# Altium schematic symbol library spacemonochrome-WR_TBL.SchLib: 1696 symbols (part 18 of 28)
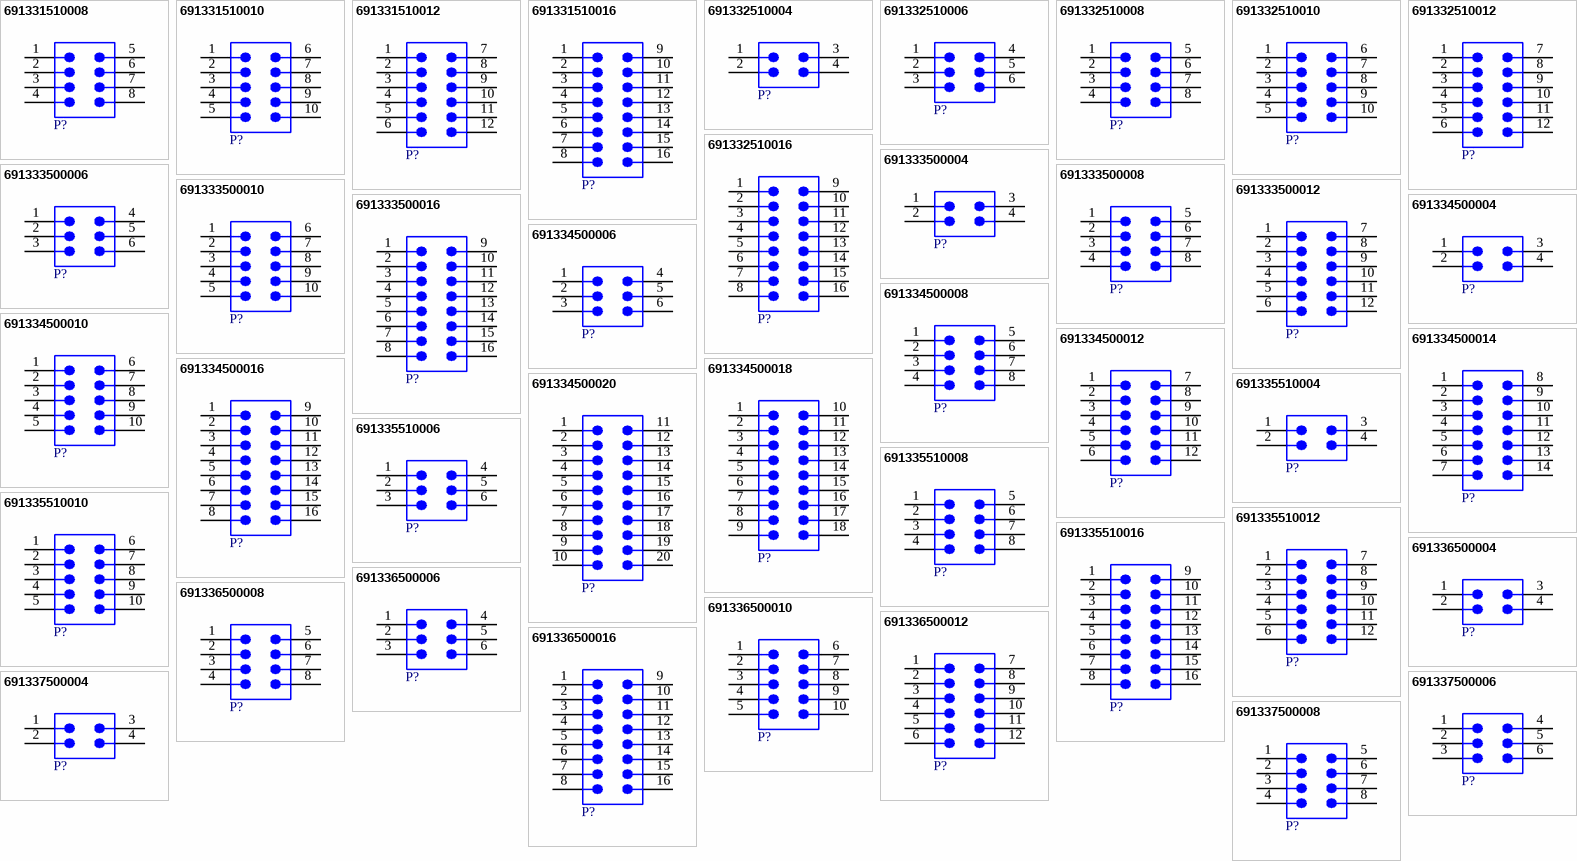
[diagram p59: symbols 691331510008 to 691337500008]

## 691334500004
designator P?  (value not drawn)
WR-TBL Series 3345 Double Level Vertical PCB Header with Flanges & Nut Type, THT, pitch 5.08mm, 4p; Manufacturer: Wurth Elektronik; Modularity: No; Rated Current: 20A; Working Voltage: 300V; ComponentLink1Description: Website Link; ComponentLink1URL: https://www.we-online.com/redexpert/article/691334500004?ad; ComponentLink2Description: Datasheet Link; ComponentLink2URL: https://www.we-online.com/redexpert/spec/691334500004?ad; Manufacturer Part Number: 691334500004; Category: Terminal Blocks; Match Code: WR-TBL; Mount: Through Hole; Operating Temperature Max: 105°C; Operating Temperature Min: -40°C; Packaging: Box; Application: Pluggable; Number of Pins: 4; Number of Rows: 2; Orientation: Double Level Vertical; Pitch: 5.08mm
footprint 691334500004
pins: 1, 2, 3, 4

## 691334500006
designator P?  (value not drawn)
WR-TBL Series 3345 Double Level Vertical PCB Header with Flanges & Nut Type, THT, pitch 5.08mm, 6p; Manufacturer: Wurth Elektronik; Modularity: No; Rated Current: 20A; Working Voltage: 300V; ComponentLink1Description: Website Link; ComponentLink1URL: https://www.we-online.com/redexpert/article/691334500006?ad; ComponentLink2Description: Datasheet Link; ComponentLink2URL: https://www.we-online.com/redexpert/spec/691334500006?ad; Manufacturer Part Number: 691334500006; Category: Terminal Blocks; Match Code: WR-TBL; Mount: Through Hole; Operating Temperature Max: 105°C; Operating Temperature Min: -40°C; Packaging: Box; Application: Pluggable; Number of Pins: 6; Number of Rows: 2; Orientation: Double Level Vertical; Pitch: 5.08mm
footprint 691334500006
pins: 1, 2, 3, 4, 5, 6

## 691334500008
designator P?  (value not drawn)
WR-TBL Series 3345 Double Level Vertical PCB Header with Flanges & Nut Type, THT, pitch 5.08mm, 8p; Manufacturer: Wurth Elektronik; Modularity: No; Rated Current: 20A; Working Voltage: 300V; ComponentLink1Description: Website Link; ComponentLink1URL: https://www.we-online.com/redexpert/article/691334500008?ad; ComponentLink2Description: Datasheet Link; ComponentLink2URL: https://www.we-online.com/redexpert/spec/691334500008?ad; Manufacturer Part Number: 691334500008; Category: Terminal Blocks; Match Code: WR-TBL; Mount: Through Hole; Operating Temperature Max: 105°C; Operating Temperature Min: -40°C; Packaging: Box; Application: Pluggable; Number of Pins: 8; Number of Rows: 2; Orientation: Double Level Vertical; Pitch: 5.08mm
footprint 691334500008
pins: 1, 2, 3, 4, 5, 6, 7, 8

## 691334500010
designator P?  (value not drawn)
WR-TBL Series 3345 Double Level Vertical PCB Header with Flanges & Nut Type, THT, pitch 5.08mm, 10p; Manufacturer: Wurth Elektronik; Modularity: No; Rated Current: 20A; Working Voltage: 300V; ComponentLink1Description: Website Link; ComponentLink1URL: https://www.we-online.com/redexpert/article/691334500010?ad; ComponentLink2Description: Datasheet Link; ComponentLink2URL: https://www.we-online.com/redexpert/spec/691334500010?ad; Manufacturer Part Number: 691334500010; Category: Terminal Blocks; Match Code: WR-TBL; Mount: Through Hole; Operating Temperature Max: 105°C; Operating Temperature Min: -40°C; Packaging: Box; Application: Pluggable; Number of Pins: 10; Number of Rows: 2; Orientation: Double Level Vertical; Pitch: 5.08mm
footprint 691334500010
pins: 1, 2, 3, 4, 5, 6, 7, 8, 9, 10

## 691334500012
designator P?  (value not drawn)
WR-TBL Series 3345 Double Level Vertical PCB Header with Flanges & Nut Type, THT, pitch 5.08mm, 12p; Manufacturer: Wurth Elektronik; Modularity: No; Rated Current: 20A; Working Voltage: 300V; ComponentLink1Description: Website Link; ComponentLink1URL: https://www.we-online.com/redexpert/article/691334500012?ad; ComponentLink2Description: Datasheet Link; ComponentLink2URL: https://www.we-online.com/redexpert/spec/691334500012?ad; Manufacturer Part Number: 691334500012; Category: Terminal Blocks; Match Code: WR-TBL; Mount: Through Hole; Operating Temperature Max: 105°C; Operating Temperature Min: -40°C; Packaging: Box; Application: Pluggable; Number of Pins: 12; Number of Rows: 2; Orientation: Double Level Vertical; Pitch: 5.08mm
footprint 691334500012
pins: 1, 2, 3, 4, 5, 6, 7, 8, 9, 10, 11, 12

## 691334500014
designator P?  (value not drawn)
WR-TBL Series 3345 Double Level Vertical PCB Header with Flanges & Nut Type, THT, pitch 5.08mm, 14p; Manufacturer: Wurth Elektronik; Modularity: No; Rated Current: 20A; Working Voltage: 300V; ComponentLink1Description: Website Link; ComponentLink1URL: https://www.we-online.com/redexpert/article/691334500014?ad; ComponentLink2Description: Datasheet Link; ComponentLink2URL: https://www.we-online.com/redexpert/spec/691334500014?ad; Manufacturer Part Number: 691334500014; Category: Terminal Blocks; Match Code: WR-TBL; Mount: Through Hole; Operating Temperature Max: 105°C; Operating Temperature Min: -40°C; Packaging: Box; Application: Pluggable; Number of Pins: 14; Number of Rows: 2; Orientation: Double Level Vertical; Pitch: 5.08mm
footprint 691334500014
pins: 1, 2, 3, 4, 5, 6, 7, 8, 9, 10, 11, 12, 13, 14

## 691334500016
designator P?  (value not drawn)
WR-TBL Series 3345 Double Level Vertical PCB Header with Flanges & Nut Type, THT, pitch 5.08mm, 16p; Manufacturer: Wurth Elektronik; Modularity: No; Rated Current: 20A; Working Voltage: 300V; ComponentLink1Description: Website Link; ComponentLink1URL: https://www.we-online.com/redexpert/article/691334500016?ad; ComponentLink2Description: Datasheet Link; ComponentLink2URL: https://www.we-online.com/redexpert/spec/691334500016?ad; Manufacturer Part Number: 691334500016; Category: Terminal Blocks; Match Code: WR-TBL; Mount: Through Hole; Operating Temperature Max: 105°C; Operating Temperature Min: -40°C; Packaging: Box; Application: Pluggable; Number of Pins: 16; Number of Rows: 2; Orientation: Double Level Vertical; Pitch: 5.08mm
footprint 691334500016
pins: 1, 2, 3, 4, 5, 6, 7, 8, 9, 10, 11, 12, 13, 14, 15, 16

## 691334500018
designator P?  (value not drawn)
WR-TBL Series 3345 Double Level Vertical PCB Header with Flanges & Nut Type, THT, pitch 5.08mm, 18p; Manufacturer: Wurth Elektronik; Modularity: No; Rated Current: 20A; Working Voltage: 300V; ComponentLink1Description: Website Link; ComponentLink1URL: https://www.we-online.com/redexpert/article/691334500018?ad; ComponentLink2Description: Datasheet Link; ComponentLink2URL: https://www.we-online.com/redexpert/spec/691334500018?ad; Manufacturer Part Number: 691334500018; Category: Terminal Blocks; Match Code: WR-TBL; Mount: Through Hole; Operating Temperature Max: 105°C; Operating Temperature Min: -40°C; Packaging: Box; Application: Pluggable; Number of Pins: 18; Number of Rows: 2; Orientation: Double Level Vertical; Pitch: 5.08mm
footprint 691334500018
pins: 1, 2, 3, 4, 5, 6, 7, 8, 9, 10, 11, 12, 13, 14, 15, 16, 17, 18

## 691334500020
designator P?  (value not drawn)
WR-TBL Series 3345 Double Level Vertical PCB Header with Flanges & Nut Type, THT, pitch 5.08mm, 20p; Manufacturer: Wurth Elektronik; Modularity: No; Rated Current: 20A; Working Voltage: 300V; ComponentLink1Description: Website Link; ComponentLink1URL: https://www.we-online.com/redexpert/article/691334500020?ad; ComponentLink2Description: Datasheet Link; ComponentLink2URL: https://www.we-online.com/redexpert/spec/691334500020?ad; Manufacturer Part Number: 691334500020; Category: Terminal Blocks; Match Code: WR-TBL; Mount: Through Hole; Operating Temperature Max: 105°C; Operating Temperature Min: -40°C; Packaging: Box; Application: Pluggable; Number of Pins: 20; Number of Rows: 2; Orientation: Double Level Vertical; Pitch: 5.08mm
footprint 691334500020
pins: 1, 2, 3, 4, 5, 6, 7, 8, 9, 10, 11, 12, 13, 14, 15, 16, 17, 18, 19, 20

## 691335510004
designator P?  (value not drawn)
WR-TBL Series 3355 Double Level Horizontal PCB Header Modular, THT, pitch 5.08mm, 4p; Manufacturer: Wurth Elektronik; Modularity: Yes; Rated Current: 10A; Working Voltage: 300V; ComponentLink1Description: Website Link; ComponentLink1URL: https://www.we-online.com/redexpert/article/691335510004?ad; ComponentLink2Description: Datasheet Link; ComponentLink2URL: https://www.we-online.com/redexpert/spec/691335510004?ad; Manufacturer Part Number: 691335510004; Category: Terminal Blocks; Match Code: WR-TBL; Mount: Through Hole; Operating Temperature Max: 105°C; Operating Temperature Min: -40°C; Packaging: Box; Application: Pluggable; Number of Pins: 4; Number of Rows: 2; Orientation: Double Level Horizontal; Pitch: 5.08mm
footprint 691335510004
pins: 1, 2, 3, 4

## 691335510006
designator P?  (value not drawn)
WR-TBL Series 3355 Double Level Horizontal PCB Header Modular, THT, pitch 5.08mm, 6p; Manufacturer: Wurth Elektronik; Modularity: Yes; Rated Current: 10A; Working Voltage: 300V; ComponentLink1Description: Website Link; ComponentLink1URL: https://www.we-online.com/redexpert/article/691335510006?ad; ComponentLink2Description: Datasheet Link; ComponentLink2URL: https://www.we-online.com/redexpert/spec/691335510006?ad; Manufacturer Part Number: 691335510006; Category: Terminal Blocks; Match Code: WR-TBL; Mount: Through Hole; Operating Temperature Max: 105°C; Operating Temperature Min: -40°C; Packaging: Box; Application: Pluggable; Number of Pins: 6; Number of Rows: 2; Orientation: Double Level Horizontal; Pitch: 5.08mm
footprint 691335510006
pins: 1, 2, 3, 4, 5, 6

## 691335510008
designator P?  (value not drawn)
WR-TBL Series 3355 Double Level Horizontal PCB Header Modular, THT, pitch 5.08mm, 8p; Manufacturer: Wurth Elektronik; Modularity: Yes; Rated Current: 10A; Working Voltage: 300V; ComponentLink1Description: Website Link; ComponentLink1URL: https://www.we-online.com/redexpert/article/691335510008?ad; ComponentLink2Description: Datasheet Link; ComponentLink2URL: https://www.we-online.com/redexpert/spec/691335510008?ad; Manufacturer Part Number: 691335510008; Category: Terminal Blocks; Match Code: WR-TBL; Mount: Through Hole; Operating Temperature Max: 105°C; Operating Temperature Min: -40°C; Packaging: Box; Application: Pluggable; Number of Pins: 8; Number of Rows: 2; Orientation: Double Level Horizontal; Pitch: 5.08mm
footprint 691335510008
pins: 1, 2, 3, 4, 5, 6, 7, 8

## 691335510010
designator P?  (value not drawn)
WR-TBL Series 3355 Double Level Horizontal PCB Header Modular, THT, pitch 5.08mm, 10p; Manufacturer: Wurth Elektronik; Modularity: Yes; Rated Current: 10A; Working Voltage: 300V; ComponentLink1Description: Website Link; ComponentLink1URL: https://www.we-online.com/redexpert/article/691335510010?ad; ComponentLink2Description: Datasheet Link; ComponentLink2URL: https://www.we-online.com/redexpert/spec/691335510010?ad; Manufacturer Part Number: 691335510010; Category: Terminal Blocks; Match Code: WR-TBL; Mount: Through Hole; Operating Temperature Max: 105°C; Operating Temperature Min: -40°C; Packaging: Box; Application: Pluggable; Number of Pins: 10; Number of Rows: 2; Orientation: Double Level Horizontal; Pitch: 5.08mm
footprint 691335510010
pins: 1, 2, 3, 4, 5, 6, 7, 8, 9, 10

## 691335510012
designator P?  (value not drawn)
WR-TBL Series 3355 Double Level Horizontal PCB Header Modular, THT, pitch 5.08mm, 12p; Manufacturer: Wurth Elektronik; Modularity: Yes; Rated Current: 10A; Working Voltage: 300V; ComponentLink1Description: Website Link; ComponentLink1URL: https://www.we-online.com/redexpert/article/691335510012?ad; ComponentLink2Description: Datasheet Link; ComponentLink2URL: https://www.we-online.com/redexpert/spec/691335510012?ad; Manufacturer Part Number: 691335510012; Category: Terminal Blocks; Match Code: WR-TBL; Mount: Through Hole; Operating Temperature Max: 105°C; Operating Temperature Min: -40°C; Packaging: Box; Application: Pluggable; Number of Pins: 12; Number of Rows: 2; Orientation: Double Level Horizontal; Pitch: 5.08mm
footprint 691335510012
pins: 1, 2, 3, 4, 5, 6, 7, 8, 9, 10, 11, 12

## 691335510016
designator P?  (value not drawn)
WR-TBL Series 3355 Double Level Horizontal PCB Header Modular, THT, pitch 5.08mm, 16p; Manufacturer: Wurth Elektronik; Modularity: Yes; Rated Current: 10A; Working Voltage: 300V; ComponentLink1Description: Website Link; ComponentLink1URL: https://www.we-online.com/redexpert/article/691335510016?ad; ComponentLink2Description: Datasheet Link; ComponentLink2URL: https://www.we-online.com/redexpert/spec/691335510016?ad; Manufacturer Part Number: 691335510016; Category: Terminal Blocks; Match Code: WR-TBL; Mount: Through Hole; Operating Temperature Max: 105°C; Operating Temperature Min: -40°C; Packaging: Box; Application: Pluggable; Number of Pins: 16; Number of Rows: 2; Orientation: Double Level Horizontal; Pitch: 5.08mm
footprint 691335510016
pins: 1, 2, 3, 4, 5, 6, 7, 8, 9, 10, 11, 12, 13, 14, 15, 16

## 691336500004
designator P?  (value not drawn)
WR-TBL Series 3365 Double Level Vertical Header with Flanges, THT, pitch 5.08mm, 4p; Manufacturer: Wurth Elektronik; Modularity: No; Rated Current: 15A; Working Voltage: 300V; ComponentLink1Description: Website Link; ComponentLink1URL: https://www.we-online.com/redexpert/article/691336500004?ad; ComponentLink2Description: Datasheet Link; ComponentLink2URL: https://www.we-online.com/redexpert/spec/691336500004?ad; Manufacturer Part Number: 691336500004; Category: Terminal Blocks; Match Code: WR-TBL; Mount: Through Hole; Operating Temperature Max: 105°C; Operating Temperature Min: -40°C; Packaging: Box; Application: Pluggable; Number of Pins: 4; Number of Rows: 2; Orientation: Double Level Vertical; Pitch: 5.08mm
footprint 691336500004
pins: 1, 2, 3, 4

## 691336500006
designator P?  (value not drawn)
WR-TBL Series 3365 Double Level Vertical Header with Flanges, THT, pitch 5.08mm, 6p; Manufacturer: Wurth Elektronik; Modularity: No; Rated Current: 15A; Working Voltage: 300V; ComponentLink1Description: Website Link; ComponentLink1URL: https://www.we-online.com/redexpert/article/691336500006?ad; ComponentLink2Description: Datasheet Link; ComponentLink2URL: https://www.we-online.com/redexpert/spec/691336500006?ad; Manufacturer Part Number: 691336500006; Category: Terminal Blocks; Match Code: WR-TBL; Mount: Through Hole; Operating Temperature Max: 105°C; Operating Temperature Min: -40°C; Packaging: Box; Application: Pluggable; Number of Pins: 6; Number of Rows: 2; Orientation: Double Level Vertical; Pitch: 5.08mm
footprint 691336500006
pins: 1, 2, 3, 4, 5, 6

## 691336500008
designator P?  (value not drawn)
WR-TBL Series 3365 Double Level Vertical Header with Flanges, THT, pitch 5.08mm, 8p; Manufacturer: Wurth Elektronik; Modularity: No; Rated Current: 15A; Working Voltage: 300V; ComponentLink1Description: Website Link; ComponentLink1URL: https://www.we-online.com/redexpert/article/691336500008?ad; ComponentLink2Description: Datasheet Link; ComponentLink2URL: https://www.we-online.com/redexpert/spec/691336500008?ad; Manufacturer Part Number: 691336500008; Category: Terminal Blocks; Match Code: WR-TBL; Mount: Through Hole; Operating Temperature Max: 105°C; Operating Temperature Min: -40°C; Packaging: Box; Application: Pluggable; Number of Pins: 8; Number of Rows: 2; Orientation: Double Level Vertical; Pitch: 5.08mm
footprint 691336500008
pins: 1, 2, 3, 4, 5, 6, 7, 8

## 691336500010
designator P?  (value not drawn)
WR-TBL Series 3365 Double Level Vertical Header with Flanges, THT, pitch 5.08mm, 10p; Manufacturer: Wurth Elektronik; Modularity: No; Rated Current: 15A; Working Voltage: 300V; ComponentLink1Description: Website Link; ComponentLink1URL: https://www.we-online.com/redexpert/article/691336500010?ad; ComponentLink2Description: Datasheet Link; ComponentLink2URL: https://www.we-online.com/redexpert/spec/691336500010?ad; Manufacturer Part Number: 691336500010; Category: Terminal Blocks; Match Code: WR-TBL; Mount: Through Hole; Operating Temperature Max: 105°C; Operating Temperature Min: -40°C; Packaging: Box; Application: Pluggable; Number of Pins: 10; Number of Rows: 2; Orientation: Double Level Vertical; Pitch: 5.08mm
footprint 691336500010
pins: 1, 2, 3, 4, 5, 6, 7, 8, 9, 10

## 691336500012
designator P?  (value not drawn)
WR-TBL Series 3365 Double Level Vertical Header with Flanges, THT, pitch 5.08mm, 12p; Manufacturer: Wurth Elektronik; Modularity: No; Rated Current: 15A; Working Voltage: 300V; ComponentLink1Description: Website Link; ComponentLink1URL: https://www.we-online.com/redexpert/article/691336500012?ad; ComponentLink2Description: Datasheet Link; ComponentLink2URL: https://www.we-online.com/redexpert/spec/691336500012?ad; Manufacturer Part Number: 691336500012; Category: Terminal Blocks; Match Code: WR-TBL; Mount: Through Hole; Operating Temperature Max: 105°C; Operating Temperature Min: -40°C; Packaging: Box; Application: Pluggable; Number of Pins: 12; Number of Rows: 2; Orientation: Double Level Vertical; Pitch: 5.08mm
footprint 691336500012
pins: 1, 2, 3, 4, 5, 6, 7, 8, 9, 10, 11, 12

## 691336500016
designator P?  (value not drawn)
WR-TBL Series 3365 Double Level Vertical Header with Flanges, THT, pitch 5.08mm, 16p; Manufacturer: Wurth Elektronik; Modularity: No; Rated Current: 15A; Working Voltage: 300V; ComponentLink1Description: Website Link; ComponentLink1URL: https://www.we-online.com/redexpert/article/691336500016?ad; ComponentLink2Description: Datasheet Link; ComponentLink2URL: https://www.we-online.com/redexpert/spec/691336500016?ad; Manufacturer Part Number: 691336500016; Category: Terminal Blocks; Match Code: WR-TBL; Mount: Through Hole; Operating Temperature Max: 105°C; Operating Temperature Min: -40°C; Packaging: Box; Application: Pluggable; Number of Pins: 16; Number of Rows: 2; Orientation: Double Level Vertical; Pitch: 5.08mm
footprint 691336500016
pins: 1, 2, 3, 4, 5, 6, 7, 8, 9, 10, 11, 12, 13, 14, 15, 16

## 691337500004
designator P?  (value not drawn)
WR-TBL Series 3375 Double Level Vertical PCB Header with Flanges & Nut Type, THT, pitch 5.08mm, 4p; Manufacturer: Wurth Elektronik; Modularity: No; Rated Current: 10A; Working Voltage: 300V; ComponentLink1Description: Website Link; ComponentLink1URL: https://www.we-online.com/redexpert/article/691337500004?ad; ComponentLink2Description: Datasheet Link; ComponentLink2URL: https://www.we-online.com/redexpert/spec/691337500004?ad; Manufacturer Part Number: 691337500004; Category: Terminal Blocks; Match Code: WR-TBL; Mount: Through Hole; Operating Temperature Max: 105°C; Operating Temperature Min: -40°C; Packaging: Box; Application: Pluggable; Number of Pins: 4; Number of Rows: 2; Orientation: Double Level Vertical; Pitch: 5.08mm
footprint 691337500004
pins: 1, 2, 3, 4

## 691337500006
designator P?  (value not drawn)
WR-TBL Series 3375 Double Level Vertical PCB Header with Flanges & Nut Type, THT, pitch 5.08mm, 6p; Manufacturer: Wurth Elektronik; Modularity: No; Rated Current: 10A; Working Voltage: 300V; ComponentLink1Description: Website Link; ComponentLink1URL: https://www.we-online.com/redexpert/article/691337500006?ad; ComponentLink2Description: Datasheet Link; ComponentLink2URL: https://www.we-online.com/redexpert/spec/691337500006?ad; Manufacturer Part Number: 691337500006; Category: Terminal Blocks; Match Code: WR-TBL; Mount: Through Hole; Operating Temperature Max: 105°C; Operating Temperature Min: -40°C; Packaging: Box; Application: Pluggable; Number of Pins: 6; Number of Rows: 2; Orientation: Double Level Vertical; Pitch: 5.08mm
footprint 691337500006
pins: 1, 2, 3, 4, 5, 6

## 691337500008
designator P?  (value not drawn)
WR-TBL Series 3375 Double Level Vertical PCB Header with Flanges & Nut Type, THT, pitch 5.08mm, 8p; Manufacturer: Wurth Elektronik; Modularity: No; Rated Current: 10A; Working Voltage: 300V; ComponentLink1Description: Website Link; ComponentLink1URL: https://www.we-online.com/redexpert/article/691337500008?ad; ComponentLink2Description: Datasheet Link; ComponentLink2URL: https://www.we-online.com/redexpert/spec/691337500008?ad; Manufacturer Part Number: 691337500008; Category: Terminal Blocks; Match Code: WR-TBL; Mount: Through Hole; Operating Temperature Max: 105°C; Operating Temperature Min: -40°C; Packaging: Box; Application: Pluggable; Number of Pins: 8; Number of Rows: 2; Orientation: Double Level Vertical; Pitch: 5.08mm
footprint 691337500008
pins: 1, 2, 3, 4, 5, 6, 7, 8

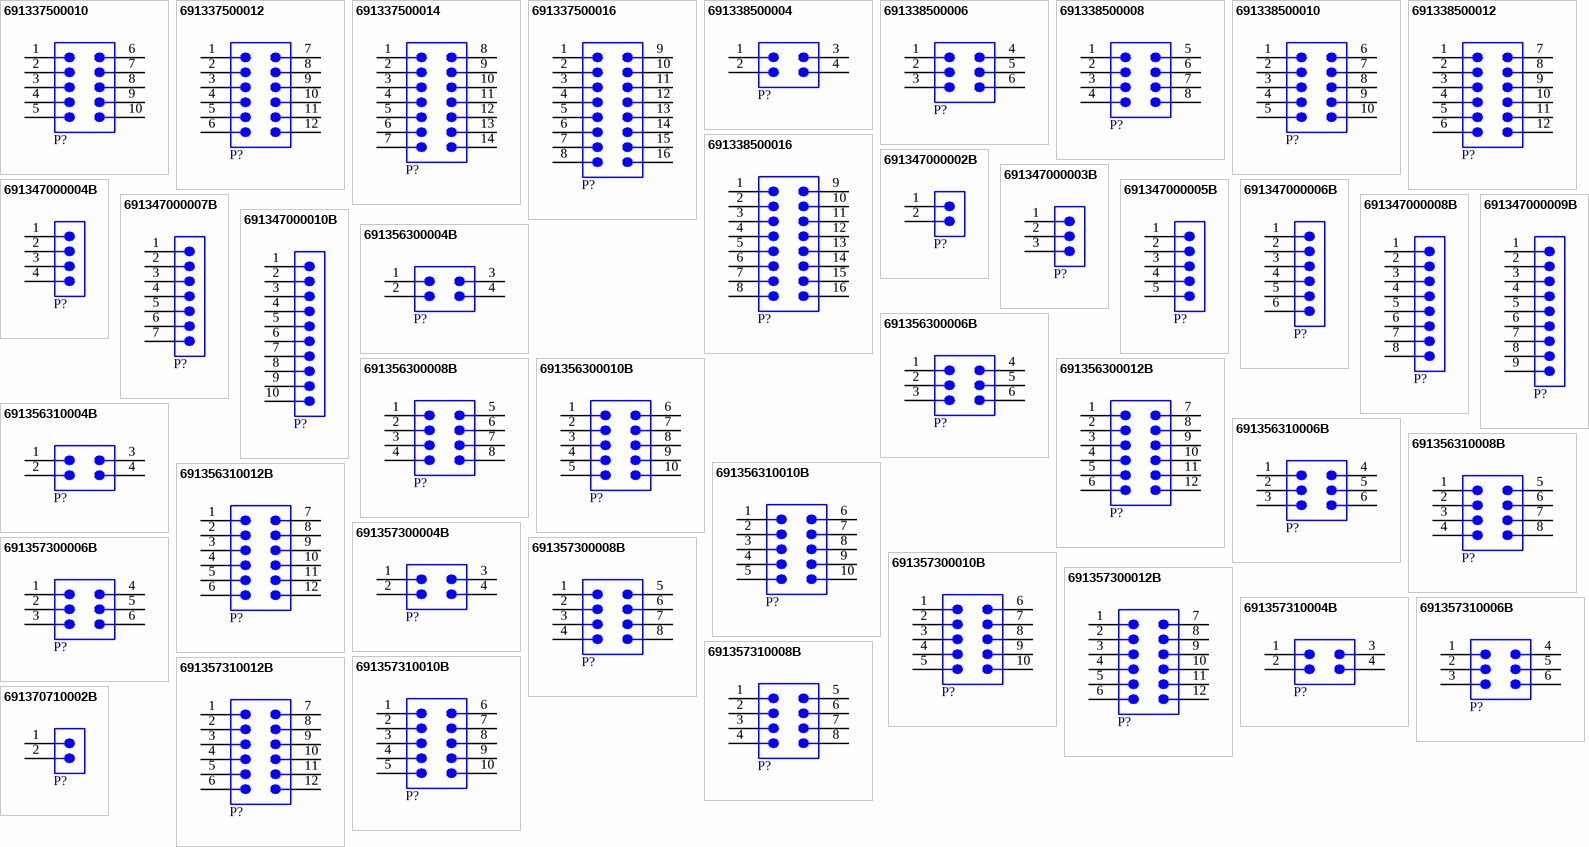
[diagram p27: symbols 691337500010 to 691370710002B]

## 691337500010
designator P?  (value not drawn)
WR-TBL Series 3375 Double Level Vertical PCB Header with Flanges & Nut Type, THT, pitch 5.08mm, 10p; Manufacturer: Wurth Elektronik; Modularity: No; Rated Current: 10A; Working Voltage: 300V; ComponentLink1Description: Website Link; ComponentLink1URL: https://www.we-online.com/redexpert/article/691337500010?ad; ComponentLink2Description: Datasheet Link; ComponentLink2URL: https://www.we-online.com/redexpert/spec/691337500010?ad; Manufacturer Part Number: 691337500010; Category: Terminal Blocks; Match Code: WR-TBL; Mount: Through Hole; Operating Temperature Max: 105°C; Operating Temperature Min: -40°C; Packaging: Box; Application: Pluggable; Number of Pins: 10; Number of Rows: 2; Orientation: Double Level Vertical; Pitch: 5.08mm
footprint 691337500010
pins: 1, 2, 3, 4, 5, 6, 7, 8, 9, 10

## 691337500012
designator P?  (value not drawn)
WR-TBL Series 3375 Double Level Vertical PCB Header with Flanges & Nut Type, THT, pitch 5.08mm, 12p; Manufacturer: Wurth Elektronik; Modularity: No; Rated Current: 10A; Working Voltage: 300V; ComponentLink1Description: Website Link; ComponentLink1URL: https://www.we-online.com/redexpert/article/691337500012?ad; ComponentLink2Description: Datasheet Link; ComponentLink2URL: https://www.we-online.com/redexpert/spec/691337500012?ad; Manufacturer Part Number: 691337500012; Category: Terminal Blocks; Match Code: WR-TBL; Mount: Through Hole; Operating Temperature Max: 105°C; Operating Temperature Min: -40°C; Packaging: Box; Application: Pluggable; Number of Pins: 12; Number of Rows: 2; Orientation: Double Level Vertical; Pitch: 5.08mm
footprint 691337500012
pins: 1, 2, 3, 4, 5, 6, 7, 8, 9, 10, 11, 12

## 691337500014
designator P?  (value not drawn)
WR-TBL Series 3375 Double Level Vertical PCB Header with Flanges & Nut Type, THT, pitch 5.08mm, 14p; Manufacturer: Wurth Elektronik; Modularity: No; Rated Current: 10A; Working Voltage: 300V; ComponentLink1Description: Website Link; ComponentLink1URL: https://www.we-online.com/redexpert/article/691337500014?ad; ComponentLink2Description: Datasheet Link; ComponentLink2URL: https://www.we-online.com/redexpert/spec/691337500014?ad; Manufacturer Part Number: 691337500014; Category: Terminal Blocks; Match Code: WR-TBL; Mount: Through Hole; Operating Temperature Max: 105°C; Operating Temperature Min: -40°C; Packaging: Box; Application: Pluggable; Number of Pins: 14; Number of Rows: 2; Orientation: Double Level Vertical; Pitch: 5.08mm
footprint 691337500014
pins: 1, 2, 3, 4, 5, 6, 7, 8, 9, 10, 11, 12, 13, 14

## 691337500016
designator P?  (value not drawn)
WR-TBL Series 3375 Double Level Vertical PCB Header with Flanges & Nut Type, THT, pitch 5.08mm, 16p; Manufacturer: Wurth Elektronik; Modularity: No; Rated Current: 10A; Working Voltage: 300V; ComponentLink1Description: Website Link; ComponentLink1URL: https://www.we-online.com/redexpert/article/691337500016?ad; ComponentLink2Description: Datasheet Link; ComponentLink2URL: https://www.we-online.com/redexpert/spec/691337500016?ad; Manufacturer Part Number: 691337500016; Category: Terminal Blocks; Match Code: WR-TBL; Mount: Through Hole; Operating Temperature Max: 105°C; Operating Temperature Min: -40°C; Packaging: Box; Application: Pluggable; Number of Pins: 16; Number of Rows: 2; Orientation: Double Level Vertical; Pitch: 5.08mm
footprint 691337500016
pins: 1, 2, 3, 4, 5, 6, 7, 8, 9, 10, 11, 12, 13, 14, 15, 16

## 691338500004
designator P?  (value not drawn)
WR-TBL Series 3385 Double Level Vertical PCB Header, THT, pitch 5.08mm, 4p; Manufacturer: Wurth Elektronik; Modularity: No; Rated Current: 15A; Working Voltage: 300V; ComponentLink1Description: Website Link; ComponentLink1URL: https://www.we-online.com/redexpert/article/691338500004?ad; ComponentLink2Description: Datasheet Link; ComponentLink2URL: https://www.we-online.com/redexpert/spec/691338500004?ad; Manufacturer Part Number: 691338500004; Category: Terminal Blocks; Match Code: WR-TBL; Mount: Through Hole; Operating Temperature Max: 105°C; Operating Temperature Min: -40°C; Packaging: Box; Application: Pluggable; Number of Pins: 4; Number of Rows: 2; Orientation: Double Level Vertical; Pitch: 5.08mm
footprint 691338500004
pins: 1, 2, 3, 4

## 691338500006
designator P?  (value not drawn)
WR-TBL Series 3385 Double Level Vertical PCB Header, THT, pitch 5.08mm, 6p; Manufacturer: Wurth Elektronik; Modularity: No; Rated Current: 15A; Working Voltage: 300V; ComponentLink1Description: Website Link; ComponentLink1URL: https://www.we-online.com/redexpert/article/691338500006?ad; ComponentLink2Description: Datasheet Link; ComponentLink2URL: https://www.we-online.com/redexpert/spec/691338500006?ad; Manufacturer Part Number: 691338500006; Category: Terminal Blocks; Match Code: WR-TBL; Mount: Through Hole; Operating Temperature Max: 105°C; Operating Temperature Min: -40°C; Packaging: Box; Application: Pluggable; Number of Pins: 6; Number of Rows: 2; Orientation: Double Level Vertical; Pitch: 5.08mm
footprint 691338500006
pins: 1, 2, 3, 4, 5, 6

## 691338500008
designator P?  (value not drawn)
WR-TBL Series 3385 Double Level Vertical PCB Header, THT, pitch 5.08mm, 8p; Manufacturer: Wurth Elektronik; Modularity: No; Rated Current: 15A; Working Voltage: 300V; ComponentLink1Description: Website Link; ComponentLink1URL: https://www.we-online.com/redexpert/article/691338500008?ad; ComponentLink2Description: Datasheet Link; ComponentLink2URL: https://www.we-online.com/redexpert/spec/691338500008?ad; Manufacturer Part Number: 691338500008; Category: Terminal Blocks; Match Code: WR-TBL; Mount: Through Hole; Operating Temperature Max: 105°C; Operating Temperature Min: -40°C; Packaging: Box; Application: Pluggable; Number of Pins: 8; Number of Rows: 2; Orientation: Double Level Vertical; Pitch: 5.08mm
footprint 691338500008
pins: 1, 2, 3, 4, 5, 6, 7, 8

## 691338500010
designator P?  (value not drawn)
WR-TBL Series 3385 Double Level Vertical PCB Header, THT, pitch 5.08mm, 10p; Manufacturer: Wurth Elektronik; Modularity: No; Rated Current: 15A; Working Voltage: 300V; ComponentLink1Description: Website Link; ComponentLink1URL: https://www.we-online.com/redexpert/article/691338500010?ad; ComponentLink2Description: Datasheet Link; ComponentLink2URL: https://www.we-online.com/redexpert/spec/691338500010?ad; Manufacturer Part Number: 691338500010; Category: Terminal Blocks; Match Code: WR-TBL; Mount: Through Hole; Operating Temperature Max: 105°C; Operating Temperature Min: -40°C; Packaging: Box; Application: Pluggable; Number of Pins: 10; Number of Rows: 2; Orientation: Double Level Vertical; Pitch: 5.08mm
footprint 691338500010
pins: 1, 2, 3, 4, 5, 6, 7, 8, 9, 10

## 691338500012
designator P?  (value not drawn)
WR-TBL Series 3385 Double Level Vertical PCB Header, THT, pitch 5.08mm, 12p; Manufacturer: Wurth Elektronik; Modularity: No; Rated Current: 15A; Working Voltage: 300V; ComponentLink1Description: Website Link; ComponentLink1URL: https://www.we-online.com/redexpert/article/691338500012?ad; ComponentLink2Description: Datasheet Link; ComponentLink2URL: https://www.we-online.com/redexpert/spec/691338500012?ad; Manufacturer Part Number: 691338500012; Category: Terminal Blocks; Match Code: WR-TBL; Mount: Through Hole; Operating Temperature Max: 105°C; Operating Temperature Min: -40°C; Packaging: Box; Application: Pluggable; Number of Pins: 12; Number of Rows: 2; Orientation: Double Level Vertical; Pitch: 5.08mm
footprint 691338500012
pins: 1, 2, 3, 4, 5, 6, 7, 8, 9, 10, 11, 12

## 691338500016
designator P?  (value not drawn)
WR-TBL Series 3385 Double Level Vertical PCB Header, THT, pitch 5.08mm, 16p; Manufacturer: Wurth Elektronik; Modularity: No; Rated Current: 15A; Working Voltage: 300V; ComponentLink1Description: Website Link; ComponentLink1URL: https://www.we-online.com/redexpert/article/691338500016?ad; ComponentLink2Description: Datasheet Link; ComponentLink2URL: https://www.we-online.com/redexpert/spec/691338500016?ad; Manufacturer Part Number: 691338500016; Category: Terminal Blocks; Match Code: WR-TBL; Mount: Through Hole; Operating Temperature Max: 105°C; Operating Temperature Min: -40°C; Packaging: Box; Application: Pluggable; Number of Pins: 16; Number of Rows: 2; Orientation: Double Level Vertical; Pitch: 5.08mm
footprint 691338500016
pins: 1, 2, 3, 4, 5, 6, 7, 8, 9, 10, 11, 12, 13, 14, 15, 16

## 691347000002B
designator P?  (value not drawn)
WR-TBL Series 3470B PCB Header Vertical cable entry, THT, pitch 2.5mm, 2p; Manufacturer: Wurth Elektronik; Modularity: No; Rated Current: 6A; Working Voltage: 150V; ComponentLink1Description: Website Link; ComponentLink1URL: https://www.we-online.com/redexpert/article/691347000002B?ad; ComponentLink2Description: Datasheet Link; ComponentLink2URL: https://www.we-online.com/redexpert/spec/691347000002B?ad; Manufacturer Part Number: 691347000002B; Category: Terminal Blocks; Match Code: WR-TBL; Mount: Through Hole; Operating Temperature Max: 105°C; Operating Temperature Min: -40°C; Packaging: Carton; Application: Plug Screwless Push In; Number of Pins: 2; Number of Rows: 1; Orientation: Vertical Cable Entry; Pitch: 2.5mm
footprint 691347000002B
pins: 1, 2

## 691347000003B
designator P?  (value not drawn)
WR-TBL Series 3470B PCB Header Vertical cable entry, THT, pitch 2.5mm, 3p; Manufacturer: Wurth Elektronik; Modularity: No; Rated Current: 6A; Working Voltage: 150V; ComponentLink1Description: Website Link; ComponentLink1URL: https://www.we-online.com/redexpert/article/691347000003B?ad; ComponentLink2Description: Datasheet Link; ComponentLink2URL: https://www.we-online.com/redexpert/spec/691347000003B?ad; Manufacturer Part Number: 691347000003B; Category: Terminal Blocks; Match Code: WR-TBL; Mount: Through Hole; Operating Temperature Max: 105°C; Operating Temperature Min: -40°C; Packaging: Carton; Application: Plug Screwless Push In; Number of Pins: 3; Number of Rows: 1; Orientation: Vertical Cable Entry; Pitch: 2.5mm
footprint 691347000003B
pins: 1, 2, 3

## 691347000004B
designator P?  (value not drawn)
WR-TBL Series 3470B PCB Header Vertical cable entry, THT, pitch 2.5mm, 4p; Manufacturer: Wurth Elektronik; Modularity: No; Rated Current: 6A; Working Voltage: 150V; ComponentLink1Description: Website Link; ComponentLink1URL: https://www.we-online.com/redexpert/article/691347000004B?ad; ComponentLink2Description: Datasheet Link; ComponentLink2URL: https://www.we-online.com/redexpert/spec/691347000004B?ad; Manufacturer Part Number: 691347000004B; Category: Terminal Blocks; Match Code: WR-TBL; Mount: Through Hole; Operating Temperature Max: 105°C; Operating Temperature Min: -40°C; Packaging: Carton; Application: Plug Screwless Push In; Number of Pins: 4; Number of Rows: 1; Orientation: Vertical Cable Entry; Pitch: 2.5mm
footprint 691347000004B
pins: 1, 2, 3, 4

## 691347000005B
designator P?  (value not drawn)
WR-TBL Series 3470B PCB Header Vertical cable entry, THT, pitch 2.5mm, 5p; Manufacturer: Wurth Elektronik; Modularity: No; Rated Current: 6A; Working Voltage: 150V; ComponentLink1Description: Website Link; ComponentLink1URL: https://www.we-online.com/redexpert/article/691347000005B?ad; ComponentLink2Description: Datasheet Link; ComponentLink2URL: https://www.we-online.com/redexpert/spec/691347000005B?ad; Manufacturer Part Number: 691347000005B; Category: Terminal Blocks; Match Code: WR-TBL; Mount: Through Hole; Operating Temperature Max: 105°C; Operating Temperature Min: -40°C; Packaging: Carton; Application: Plug Screwless Push In; Number of Pins: 5; Number of Rows: 1; Orientation: Vertical Cable Entry; Pitch: 2.5mm
footprint 691347000005B
pins: 1, 2, 3, 4, 5

## 691347000006B
designator P?  (value not drawn)
WR-TBL Series 3470B PCB Header Vertical cable entry, THT, pitch 2.5mm, 6p; Manufacturer: Wurth Elektronik; Modularity: No; Rated Current: 6A; Working Voltage: 150V; ComponentLink1Description: Website Link; ComponentLink1URL: https://www.we-online.com/redexpert/article/691347000006B?ad; ComponentLink2Description: Datasheet Link; ComponentLink2URL: https://www.we-online.com/redexpert/spec/691347000006B?ad; Manufacturer Part Number: 691347000006B; Category: Terminal Blocks; Match Code: WR-TBL; Mount: Through Hole; Operating Temperature Max: 105°C; Operating Temperature Min: -40°C; Packaging: Carton; Application: Plug Screwless Push In; Number of Pins: 6; Number of Rows: 1; Orientation: Vertical Cable Entry; Pitch: 2.5mm
footprint 691347000006B
pins: 1, 2, 3, 4, 5, 6

## 691347000007B
designator P?  (value not drawn)
WR-TBL Series 3470B PCB Header Vertical cable entry, THT, pitch 2.5mm, 7p; Manufacturer: Wurth Elektronik; Modularity: No; Rated Current: 6A; Working Voltage: 150V; ComponentLink1Description: Website Link; ComponentLink1URL: https://www.we-online.com/redexpert/article/691347000007B?ad; ComponentLink2Description: Datasheet Link; ComponentLink2URL: https://www.we-online.com/redexpert/spec/691347000007B?ad; Manufacturer Part Number: 691347000007B; Category: Terminal Blocks; Match Code: WR-TBL; Mount: Through Hole; Operating Temperature Max: 105°C; Operating Temperature Min: -40°C; Packaging: Carton; Application: Plug Screwless Push In; Number of Pins: 7; Number of Rows: 1; Orientation: Vertical Cable Entry; Pitch: 2.5mm
footprint 691347000007B
pins: 1, 2, 3, 4, 5, 6, 7

## 691347000008B
designator P?  (value not drawn)
WR-TBL Series 3470B PCB Header Vertical cable entry, THT, pitch 2.5mm, 8p; Manufacturer: Wurth Elektronik; Modularity: No; Rated Current: 6A; Working Voltage: 150V; ComponentLink1Description: Website Link; ComponentLink1URL: https://www.we-online.com/redexpert/article/691347000008B?ad; ComponentLink2Description: Datasheet Link; ComponentLink2URL: https://www.we-online.com/redexpert/spec/691347000008B?ad; Manufacturer Part Number: 691347000008B; Category: Terminal Blocks; Match Code: WR-TBL; Mount: Through Hole; Operating Temperature Max: 105°C; Operating Temperature Min: -40°C; Packaging: Carton; Application: Plug Screwless Push In; Number of Pins: 8; Number of Rows: 1; Orientation: Vertical Cable Entry; Pitch: 2.5mm
footprint 691347000008B
pins: 1, 2, 3, 4, 5, 6, 7, 8

## 691347000009B
designator P?  (value not drawn)
WR-TBL Series 3470B PCB Header Vertical cable entry, THT, pitch 2.5mm, 9p; Manufacturer: Wurth Elektronik; Modularity: No; Rated Current: 6A; Working Voltage: 150V; ComponentLink1Description: Website Link; ComponentLink1URL: https://www.we-online.com/redexpert/article/691347000009B?ad; ComponentLink2Description: Datasheet Link; ComponentLink2URL: https://www.we-online.com/redexpert/spec/691347000009B?ad; Manufacturer Part Number: 691347000009B; Category: Terminal Blocks; Match Code: WR-TBL; Mount: Through Hole; Operating Temperature Max: 105°C; Operating Temperature Min: -40°C; Packaging: Carton; Application: Plug Screwless Push In; Number of Pins: 9; Number of Rows: 1; Orientation: Vertical Cable Entry; Pitch: 2.5mm
footprint 691347000009B
pins: 1, 2, 3, 4, 5, 6, 7, 8, 9

## 691347000010B
designator P?  (value not drawn)
WR-TBL Series 3470B PCB Header Vertical cable entry, THT, pitch 2.5mm, 10p; Manufacturer: Wurth Elektronik; Modularity: No; Rated Current: 6A; Working Voltage: 150V; ComponentLink1Description: Website Link; ComponentLink1URL: https://www.we-online.com/redexpert/article/691347000010B?ad; ComponentLink2Description: Datasheet Link; ComponentLink2URL: https://www.we-online.com/redexpert/spec/691347000010B?ad; Manufacturer Part Number: 691347000010B; Category: Terminal Blocks; Match Code: WR-TBL; Mount: Through Hole; Operating Temperature Max: 105°C; Operating Temperature Min: -40°C; Packaging: Carton; Application: Plug Screwless Push In; Number of Pins: 10; Number of Rows: 1; Orientation: Vertical Cable Entry; Pitch: 2.5mm
footprint 691347000010B
pins: 1, 2, 3, 4, 5, 6, 7, 8, 9, 10

## 691356300004B
designator P?  (value not drawn)
WR-TBL Series 356B Double Level Vertical PCB Header, THT, pitch 3.81mm, 4p; Manufacturer: Wurth Elektronik; Modularity: No; Rated Current: 10A; Working Voltage: 300V; ComponentLink1Description: Website Link; ComponentLink1URL: https://www.we-online.com/redexpert/article/691356300004B?ad; ComponentLink2Description: Datasheet Link; ComponentLink2URL: https://www.we-online.com/redexpert/spec/691356300004B?ad; Manufacturer Part Number: 691356300004B; Category: Terminal Blocks; Match Code: WR-TBL; Mount: Through Hole; Operating Temperature Max: 105°C; Operating Temperature Min: -40°C; Packaging: Box; Application: Pluggable; Number of Pins: 4; Number of Rows: 2; Orientation: Double Level Vertical; Pitch: 3.81mm
footprint 691356300004B
pins: 1, 2, 3, 4

## 691356300006B
designator P?  (value not drawn)
WR-TBL Series 356B Double Level Vertical PCB Header, THT, pitch 3.81mm, 6p; Manufacturer: Wurth Elektronik; Modularity: No; Rated Current: 10A; Working Voltage: 300V; ComponentLink1Description: Website Link; ComponentLink1URL: https://www.we-online.com/redexpert/article/691356300006B?ad; ComponentLink2Description: Datasheet Link; ComponentLink2URL: https://www.we-online.com/redexpert/spec/691356300006B?ad; Manufacturer Part Number: 691356300006B; Category: Terminal Blocks; Match Code: WR-TBL; Mount: Through Hole; Operating Temperature Max: 105°C; Operating Temperature Min: -40°C; Packaging: Box; Application: Pluggable; Number of Pins: 6; Number of Rows: 2; Orientation: Double Level Vertical; Pitch: 3.81mm
footprint 691356300006B
pins: 1, 2, 3, 4, 5, 6

## 691356300008B
designator P?  (value not drawn)
WR-TBL Series 356B Double Level Vertical PCB Header, THT, pitch 3.81mm, 8p; Manufacturer: Wurth Elektronik; Modularity: No; Rated Current: 10A; Working Voltage: 300V; ComponentLink1Description: Website Link; ComponentLink1URL: https://www.we-online.com/redexpert/article/691356300008B?ad; ComponentLink2Description: Datasheet Link; ComponentLink2URL: https://www.we-online.com/redexpert/spec/691356300008B?ad; Manufacturer Part Number: 691356300008B; Category: Terminal Blocks; Match Code: WR-TBL; Mount: Through Hole; Operating Temperature Max: 105°C; Operating Temperature Min: -40°C; Packaging: Box; Application: Pluggable; Number of Pins: 8; Number of Rows: 2; Orientation: Double Level Vertical; Pitch: 3.81mm
footprint 691356300008B
pins: 1, 2, 3, 4, 5, 6, 7, 8

## 691356300010B
designator P?  (value not drawn)
WR-TBL Series 356B Double Level Vertical PCB Header, THT, pitch 3.81mm, 10p; Manufacturer: Wurth Elektronik; Modularity: No; Rated Current: 10A; Working Voltage: 300V; ComponentLink1Description: Website Link; ComponentLink1URL: https://www.we-online.com/redexpert/article/691356300010B?ad; ComponentLink2Description: Datasheet Link; ComponentLink2URL: https://www.we-online.com/redexpert/spec/691356300010B?ad; Manufacturer Part Number: 691356300010B; Category: Terminal Blocks; Match Code: WR-TBL; Mount: Through Hole; Operating Temperature Max: 105°C; Operating Temperature Min: -40°C; Packaging: Box; Application: Pluggable; Number of Pins: 10; Number of Rows: 2; Orientation: Double Level Vertical; Pitch: 3.81mm
footprint 691356300010B
pins: 1, 2, 3, 4, 5, 6, 7, 8, 9, 10

## 691356300012B
designator P?  (value not drawn)
WR-TBL Series 356B Double Level Vertical PCB Header, THT, pitch 3.81mm, 12p; Manufacturer: Wurth Elektronik; Modularity: No; Rated Current: 10A; Working Voltage: 300V; ComponentLink1Description: Website Link; ComponentLink1URL: https://www.we-online.com/redexpert/article/691356300012B?ad; ComponentLink2Description: Datasheet Link; ComponentLink2URL: https://www.we-online.com/redexpert/spec/691356300012B?ad; Manufacturer Part Number: 691356300012B; Category: Terminal Blocks; Match Code: WR-TBL; Mount: Through Hole; Operating Temperature Max: 105°C; Operating Temperature Min: -40°C; Packaging: Box; Application: Pluggable; Number of Pins: 12; Number of Rows: 2; Orientation: Double Level Vertical; Pitch: 3.81mm
footprint 691356300012B
pins: 1, 2, 3, 4, 5, 6, 7, 8, 9, 10, 11, 12

## 691356310004B
designator P?  (value not drawn)
WR-TBL Series 356B Double Level Horizontal PCB Header, THT, pitch 3.81mm, 4p; Manufacturer: Wurth Elektronik; Modularity: No; Rated Current: 10A; Working Voltage: 300V; ComponentLink1Description: Website Link; ComponentLink1URL: https://www.we-online.com/redexpert/article/691356310004B?ad; ComponentLink2Description: Datasheet Link; ComponentLink2URL: https://www.we-online.com/redexpert/spec/691356310004B?ad; Manufacturer Part Number: 691356310004B; Category: Terminal Blocks; Match Code: WR-TBL; Mount: Through Hole; Operating Temperature Max: 105°C; Operating Temperature Min: -40°C; Packaging: Box; Application: Pluggable; Number of Pins: 4; Number of Rows: 2; Orientation: Double Level Horizontal; Pitch: 3.81mm
footprint 691356310004B
pins: 1, 2, 3, 4

## 691356310006B
designator P?  (value not drawn)
WR-TBL Series 356B Double Level Horizontal PCB Header, THT, pitch 3.81mm, 6p; Manufacturer: Wurth Elektronik; Modularity: No; Rated Current: 10A; Working Voltage: 300V; ComponentLink1Description: Website Link; ComponentLink1URL: https://www.we-online.com/redexpert/article/691356310006B?ad; ComponentLink2Description: Datasheet Link; ComponentLink2URL: https://www.we-online.com/redexpert/spec/691356310006B?ad; Manufacturer Part Number: 691356310006B; Category: Terminal Blocks; Match Code: WR-TBL; Mount: Through Hole; Operating Temperature Max: 105°C; Operating Temperature Min: -40°C; Packaging: Box; Application: Pluggable; Number of Pins: 6; Number of Rows: 2; Orientation: Double Level Horizontal; Pitch: 3.81mm
footprint 691356310006B
pins: 1, 2, 3, 4, 5, 6

## 691356310008B
designator P?  (value not drawn)
WR-TBL Series 356B Double Level Horizontal PCB Header, THT, pitch 3.81mm, 8p; Manufacturer: Wurth Elektronik; Modularity: No; Rated Current: 10A; Working Voltage: 300V; ComponentLink1Description: Website Link; ComponentLink1URL: https://www.we-online.com/redexpert/article/691356310008B?ad; ComponentLink2Description: Datasheet Link; ComponentLink2URL: https://www.we-online.com/redexpert/spec/691356310008B?ad; Manufacturer Part Number: 691356310008B; Category: Terminal Blocks; Match Code: WR-TBL; Mount: Through Hole; Operating Temperature Max: 105°C; Operating Temperature Min: -40°C; Packaging: Box; Application: Pluggable; Number of Pins: 8; Number of Rows: 2; Orientation: Double Level Horizontal; Pitch: 3.81mm
footprint 691356310008B
pins: 1, 2, 3, 4, 5, 6, 7, 8

## 691356310010B
designator P?  (value not drawn)
WR-TBL Series 356B Double Level Horizontal PCB Header, THT, pitch 3.81mm, 10p; Manufacturer: Wurth Elektronik; Modularity: No; Rated Current: 10A; Working Voltage: 300V; ComponentLink1Description: Website Link; ComponentLink1URL: https://www.we-online.com/redexpert/article/691356310010B?ad; ComponentLink2Description: Datasheet Link; ComponentLink2URL: https://www.we-online.com/redexpert/spec/691356310010B?ad; Manufacturer Part Number: 691356310010B; Category: Terminal Blocks; Match Code: WR-TBL; Mount: Through Hole; Operating Temperature Max: 105°C; Operating Temperature Min: -40°C; Packaging: Box; Application: Pluggable; Number of Pins: 10; Number of Rows: 2; Orientation: Double Level Horizontal; Pitch: 3.81mm
footprint 691356310010B
pins: 1, 2, 3, 4, 5, 6, 7, 8, 9, 10

## 691356310012B
designator P?  (value not drawn)
WR-TBL Series 356B Double Level Horizontal PCB Header, THT, pitch 3.81mm, 12p; Manufacturer: Wurth Elektronik; Modularity: No; Rated Current: 10A; Working Voltage: 300V; ComponentLink1Description: Website Link; ComponentLink1URL: https://www.we-online.com/redexpert/article/691356310012B?ad; ComponentLink2Description: Datasheet Link; ComponentLink2URL: https://www.we-online.com/redexpert/spec/691356310012B?ad; Manufacturer Part Number: 691356310012B; Category: Terminal Blocks; Match Code: WR-TBL; Mount: Through Hole; Operating Temperature Max: 105°C; Operating Temperature Min: -40°C; Packaging: Box; Application: Pluggable; Number of Pins: 12; Number of Rows: 2; Orientation: Double Level Horizontal; Pitch: 3.81mm
footprint 691356310012B
pins: 1, 2, 3, 4, 5, 6, 7, 8, 9, 10, 11, 12

## 691357300004B
designator P?  (value not drawn)
WR-TBL Series 357B Double Level Vertical PCB Header with Flanges, THT, pitch 3.81mm, 4p; Manufacturer: Wurth Elektronik; Modularity: No; Rated Current: 10A; Working Voltage: 300V; ComponentLink1Description: Website Link; ComponentLink1URL: https://www.we-online.com/redexpert/article/691357300004B?ad; ComponentLink2Description: Datasheet Link; ComponentLink2URL: https://www.we-online.com/redexpert/spec/691357300004B?ad; Manufacturer Part Number: 691357300004B; Category: Terminal Blocks; Match Code: WR-TBL; Mount: Through Hole; Operating Temperature Max: 105°C; Operating Temperature Min: -40°C; Packaging: Box; Application: Pluggable; Number of Pins: 4; Number of Rows: 2; Orientation: Double Level Vertical; Pitch: 3.81mm
footprint 691357300004B
pins: 1, 2, 3, 4

## 691357300006B
designator P?  (value not drawn)
WR-TBL Series 357B Double Level Vertical PCB Header with Flanges, THT, pitch 3.81mm, 6p; Manufacturer: Wurth Elektronik; Modularity: No; Rated Current: 10A; Working Voltage: 300V; ComponentLink1Description: Website Link; ComponentLink1URL: https://www.we-online.com/redexpert/article/691357300006B?ad; ComponentLink2Description: Datasheet Link; ComponentLink2URL: https://www.we-online.com/redexpert/spec/691357300006B?ad; Manufacturer Part Number: 691357300006B; Category: Terminal Blocks; Match Code: WR-TBL; Mount: Through Hole; Operating Temperature Max: 105°C; Operating Temperature Min: -40°C; Packaging: Box; Application: Pluggable; Number of Pins: 6; Number of Rows: 2; Orientation: Double Level Vertical; Pitch: 3.81mm
footprint 691357300006B
pins: 1, 2, 3, 4, 5, 6

## 691357300008B
designator P?  (value not drawn)
WR-TBL Series 357B Double Level Vertical PCB Header with Flanges, THT, pitch 3.81mm, 8p; Manufacturer: Wurth Elektronik; Modularity: No; Rated Current: 10A; Working Voltage: 300V; ComponentLink1Description: Website Link; ComponentLink1URL: https://www.we-online.com/redexpert/article/691357300008B?ad; ComponentLink2Description: Datasheet Link; ComponentLink2URL: https://www.we-online.com/redexpert/spec/691357300008B?ad; Manufacturer Part Number: 691357300008B; Category: Terminal Blocks; Match Code: WR-TBL; Mount: Through Hole; Operating Temperature Max: 105°C; Operating Temperature Min: -40°C; Packaging: Box; Application: Pluggable; Number of Pins: 8; Number of Rows: 2; Orientation: Double Level Vertical; Pitch: 3.81mm
footprint 691357300008B
pins: 1, 2, 3, 4, 5, 6, 7, 8

## 691357300010B
designator P?  (value not drawn)
WR-TBL Series 357B Double Level Vertical PCB Header with Flanges, THT, pitch 3.81mm, 10p; Manufacturer: Wurth Elektronik; Modularity: No; Rated Current: 10A; Working Voltage: 300V; ComponentLink1Description: Website Link; ComponentLink1URL: https://www.we-online.com/redexpert/article/691357300010B?ad; ComponentLink2Description: Datasheet Link; ComponentLink2URL: https://www.we-online.com/redexpert/spec/691357300010B?ad; Manufacturer Part Number: 691357300010B; Category: Terminal Blocks; Match Code: WR-TBL; Mount: Through Hole; Operating Temperature Max: 105°C; Operating Temperature Min: -40°C; Packaging: Box; Application: Pluggable; Number of Pins: 10; Number of Rows: 2; Orientation: Double Level Vertical; Pitch: 3.81mm
footprint 691357300010B
pins: 1, 2, 3, 4, 5, 6, 7, 8, 9, 10

## 691357300012B
designator P?  (value not drawn)
WR-TBL Series 357B Double Level Vertical PCB Header with Flanges, THT, pitch 3.81mm, 12p; Manufacturer: Wurth Elektronik; Modularity: No; Rated Current: 10A; Working Voltage: 300V; ComponentLink1Description: Website Link; ComponentLink1URL: https://www.we-online.com/redexpert/article/691357300012B?ad; ComponentLink2Description: Datasheet Link; ComponentLink2URL: https://www.we-online.com/redexpert/spec/691357300012B?ad; Manufacturer Part Number: 691357300012B; Category: Terminal Blocks; Match Code: WR-TBL; Mount: Through Hole; Operating Temperature Max: 105°C; Operating Temperature Min: -40°C; Packaging: Box; Application: Pluggable; Number of Pins: 12; Number of Rows: 2; Orientation: Double Level Vertical; Pitch: 3.81mm
footprint 691357300012B
pins: 1, 2, 3, 4, 5, 6, 7, 8, 9, 10, 11, 12

## 691357310004B
designator P?  (value not drawn)
WR-TBL Series 357B Double Level Horizontal PCB Header with Flanges, THT, pitch 3.81mm, 4p; Manufacturer: Wurth Elektronik; Modularity: No; Rated Current: 10A; Working Voltage: 300V; ComponentLink1Description: Website Link; ComponentLink1URL: https://www.we-online.com/redexpert/article/691357310004B?ad; ComponentLink2Description: Datasheet Link; ComponentLink2URL: https://www.we-online.com/redexpert/spec/691357310004B?ad; Manufacturer Part Number: 691357310004B; Category: Terminal Blocks; Match Code: WR-TBL; Mount: Through Hole; Operating Temperature Max: 105°C; Operating Temperature Min: -40°C; Packaging: Box; Application: Pluggable; Number of Pins: 4; Number of Rows: 2; Orientation: Double Level Horizontal; Pitch: 3.81mm
footprint 691357310004B
pins: 1, 2, 3, 4